# Altium schematic symbol library TJA1051T_E_118.SchLib: 1 symbol
Pins are listed as number, name and electrical type; pins without a type are passive.

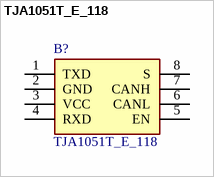
[diagram p0: symbol TJA1051T_E_118]

## TJA1051T_E_118
designator B?
NXP - TJA1051T/E,118 - CAN Bus, CAN, Serial, 4.5 V, 5.5 V, SOIC; Geometry.Height: 1.75mm; Mouser Part Number: 771-TJA1051T/E118; Mouser Price/Stock: https://www.mouser.co.uk/ProductDetail/NXP-Semiconductors/TJA1051T-E118?qs=fhAOlxDPaYXy9IJanngy7g%3D%3D; Manufacturer_Name: NXP; Manufacturer_Part_Number: TJA1051T/E,118; Datasheet Link: http://www.nxp.com/docs/en/data-sheet/TJA1051.pdf
footprint SOIC127P600X175-8N
pins: 1 TXD, 2 GND, 3 VCC, 4 RXD, 5 EN, 6 CANL, 7 CANH, 8 S